# Altium footprint library WE-HCI_1350.PcbLib: 1 footprints
Each footprint in its own frame and in the unit in brackets; x right, y up, seen from the top. Pads: shape width x height; smd on the part's side, far side on the other; paste and mask are expansions set on the pad; w line width, h text height; cw(c..) or ccw(c..) is an arc to the next point about the centre after c.
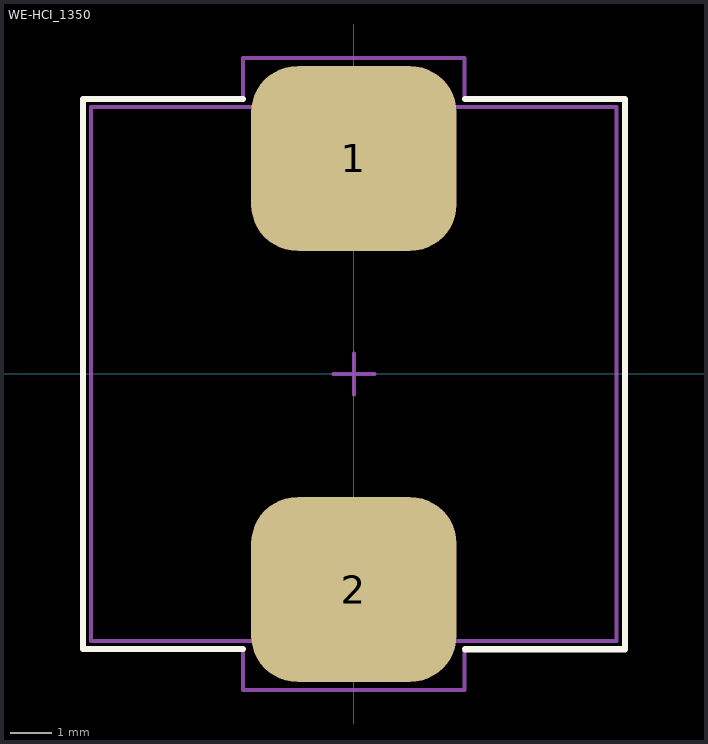
[diagram p0: the footprint, top view; thin cyan lines are the x and y axes]

## WE-HCI_1350 [mm]
pads (2):
  rrect50% 5x4.5 smd: 1(0,5.25) 2(0,-5.25)
Top Overlay:
  lines w0.15: -2.7,-6.7 -6.6,-6.7 -6.6,6.7 -2.7,6.7 ; 2.708,-6.703 6.608,-6.703 6.608,6.697 2.708,6.697
Top Assembly:
  lines w0.1: -6.4,-6.5 6.4,-6.5 6.4,6.5 -6.4,6.5 -6.4,-6.5
Top Courtyard:
  lines w0.1: -0.5,0 0.5,0 ; 0,-0.5 0,0.5 ; -6.6,-6.7 -6.6,0 -6.6,6.7 -2.7,6.7 -2.7,7.7 0,7.7 2.7,7.7 2.7,6.7 6.6,6.7 6.6,0 6.6,-6.7 2.7,-6.7 2.7,-7.7 0,-7.7 -2.7,-7.7 -2.7,-6.7 -6.6,-6.7
3D body "7443550xxx.stp": height 5, standoff 0, extent -6.4,-6.505 6.4,6.504